# EAGLE library part PC8N-* (library prolightopto)
RGB Power LED Crab Type Source: http://www.prolightopto.com/upload/DS-0082_5W_PC8N-5LTx-C_v1.9.pdf http://www.prolightopto.com/upload/DS-0083_5W_PC8N-5L4E-C_v1.6.pdf http://www.prolightopto.com/upload/DS-0084_10W_PC8N-10LTx-C_v1.5.pdf
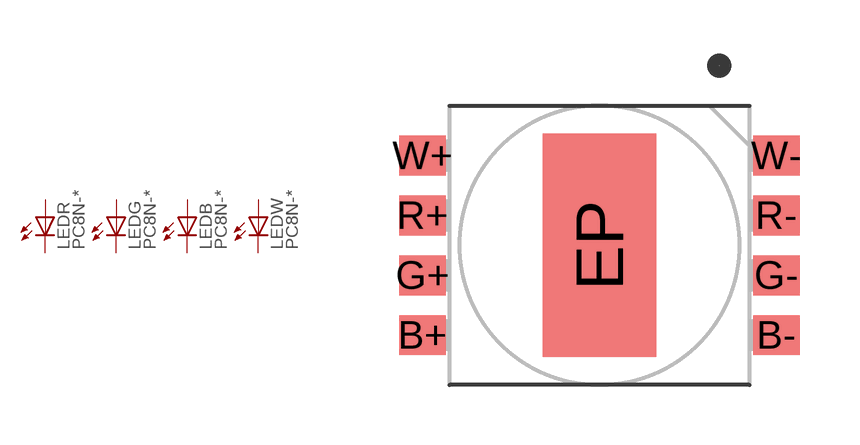
[diagram p0: symbol with the pads of PC8N; footprint PC8N]

Designator prefix LED; gates G=LED B=LED R=LED W=LED

## PC8N-10LTE, PC8N-5L4E, PC8N-5LTE  [PC8N]
B+  B:A  pas
B-  B:C  pas
G+  G:A  pas
G-  G:C  pas
R+  R:A  pas
R-  R:C  pas
W+  W:A  pas
W-  W:C  pas

## Footprint PC8N (pad centres in mm)
smd 1.16 x 1: B+ -4.43,-2.25; B- 4.43,-2.25; G+ -4.43,-0.75; G- 4.43,-0.75; R+ -4.43,0.75; R- 4.43,0.75; W+ -4.43,2.25; W- 4.43,2.25
smd 2.84 x 5.6: EP 0,0